# EAGLE library part IS61C256AL-12JL (library User-Submitted)
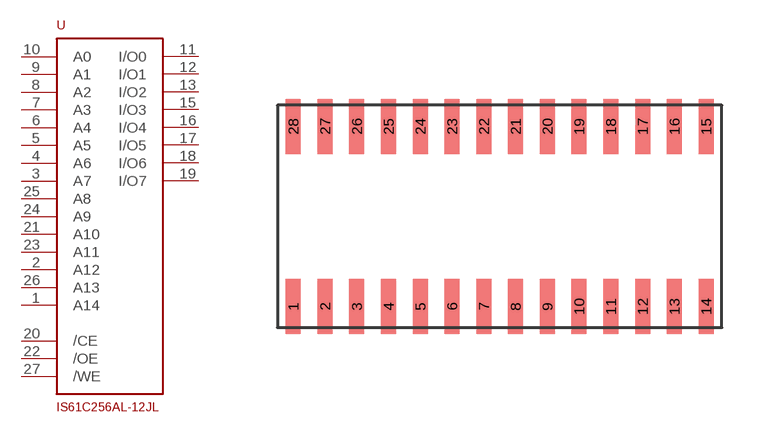
[diagram p30: symbol with the pads of SOJ28; footprint SOJ28]

Designator prefix -

## IS61C256AL-12JL  [SOJ28]
1  A14  in
2  A12  in
3  A7  in
4  A6  in
5  A5  in
6  A4  in
7  A3  in
8  A2  in
9  A1  in
10  A0  in
11  I/O0  hiz
12  I/O1  hiz
13  I/O2  hiz
15  I/O3  hiz
16  I/O4  hiz
17  I/O5  hiz
18  I/O6  hiz
19  I/O7  hiz
20  /CE  in
21  A10  in
22  /OE  in
23  A11  in
24  A9  in
25  A8  in
26  A13  in
27  /WE  in

## Footprint SOJ28 (pad centres in mm)
smd 0.6 x 2.2: 1 -8.255,-3.6; 2 -6.985,-3.6; 3 -5.715,-3.6; 4 -4.445,-3.6; 5 -3.175,-3.6; 6 -1.905,-3.6; 7 -0.635,-3.6; 8 0.635,-3.6; 9 1.905,-3.6; 10 3.175,-3.6; 11 4.445,-3.6; 12 5.715,-3.6; 13 6.985,-3.6; 14 8.255,-3.6; 15 8.255,3.6; 16 6.985,3.6; 17 5.715,3.6; 18 4.445,3.6; 19 3.175,3.6; 20 1.905,3.6; 21 0.635,3.6; 22 -0.635,3.6; 23 -1.905,3.6; 24 -3.175,3.6; 25 -4.445,3.6; 26 -5.715,3.6; 27 -6.985,3.6; 28 -8.255,3.6